# EAGLE library part QUAD_OP (library 0_Library-Rev2)
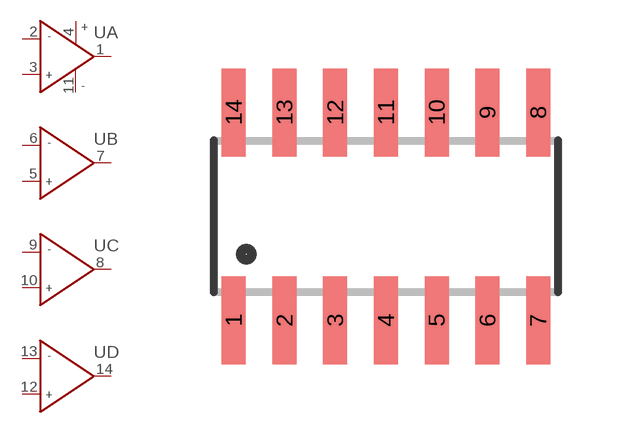
[diagram p7: symbol with the pads of SO14; footprint SO14]

Designator prefix U; gates B=OP C=OP D=OP A=OP_VCC

## QUAD_OP  [SO14]
1  A:OUT  out
2  A:IN-  in
3  A:IN+  in
4  A:+  pwr
5  B:IN+  in
6  B:IN-  in
7  B:OUT  out
8  C:OUT  out
9  C:IN-  in
10  C:IN+  in
11  A:-  pwr
12  D:IN+  in
13  D:IN-  in
14  D:OUT  out

## Footprint SO14 (pad centres in mm)
14-Lead Narrow-Body SOIC (SO-14) Source: http://www.analog.com/static/imported-files/data_sheets/SSM2166.pdf
smd 0.6 x 2.2: 1 -3.81,-2.6; 2 -2.54,-2.6; 3 -1.27,-2.6; 4 0,-2.6; 5 1.27,-2.6; 6 2.54,-2.6; 7 3.81,-2.6; 8 3.81,2.6; 9 2.54,2.6; 10 1.27,2.6; 11 0,2.6; 12 -1.27,2.6; 13 -2.54,2.6; 14 -3.81,2.6